# EAGLE library part AT42QT1060 (library Atmel)
Atmel QTouch 6 channel touch ASIC. Digi-Key Part Number AT42QT1060-MMUQS397CT-ND Manufacturer Part Number AT42QT1060-MMUQS397 Description SENSOR IC MTRX TOUCH6KEY 28-QFN
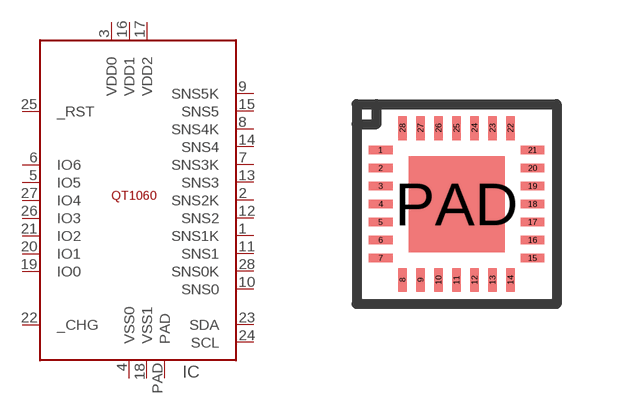
[diagram p16: symbol with the pads of 28-VFQFN; footprint 28-VFQFN]

Designator prefix IC

## AT42QT1060-28-VFQFN  [28-VFQFN]
1  SNS1K
2  SNS2K
3  VDD0
4  VSS0
5  IO5
6  IO6
7  SNS3K
8  SNS4K
9  SNS5K
10  SNS0
11  SNS1
12  SNS2
13  SNS3
14  SNS4
15  SNS5
16  VDD1
17  VDD2
18  VSS1
19  IO0
20  IO1
21  IO2
22  _CHG
23  SDA
24  SCL
25  _RST
26  IO3
27  IO4
28  SNS0K
PAD  PAD

## Footprint 28-VFQFN (pad centres in mm)
28-VFQFN exposed pad
smd 0.6 x 0.22: 1 -1.9,1.35; 2 -1.9,0.9; 3 -1.9,0.45; 4 -1.9,0; 5 -1.9,-0.45; 6 -1.9,-0.9; 7 -1.9,-1.35; 15 1.9,-1.35; 16 1.9,-0.9; 17 1.9,-0.45; 18 1.9,0; 19 1.9,0.45; 20 1.9,0.9; 21 1.9,1.35
smd 0.22 x 0.6: 8 -1.35,-1.9; 9 -0.9,-1.9; 10 -0.45,-1.9; 11 0,-1.9; 12 0.45,-1.9; 13 0.9,-1.9; 14 1.35,-1.9; 22 1.35,1.9; 23 0.9,1.9; 24 0.45,1.9; 25 0,1.9; 26 -0.45,1.9; 27 -0.9,1.9; 28 -1.35,1.9
smd 2.4 x 2.4: PAD 0,0